# Altium footprint library ebf EP4CE10 Pro_20200309_PCB库_AD格式.PcbLib: 62 footprints (part 2 of 4)
Each footprint in its own frame and in the unit in brackets; x right, y up, seen from the top. Pads: shape width x height; smd on the part's side, far side on the other; paste and mask are expansions set on the pad; w line width, h text height; cw(c..) or ccw(c..) is an arc to the next point about the centre after c.
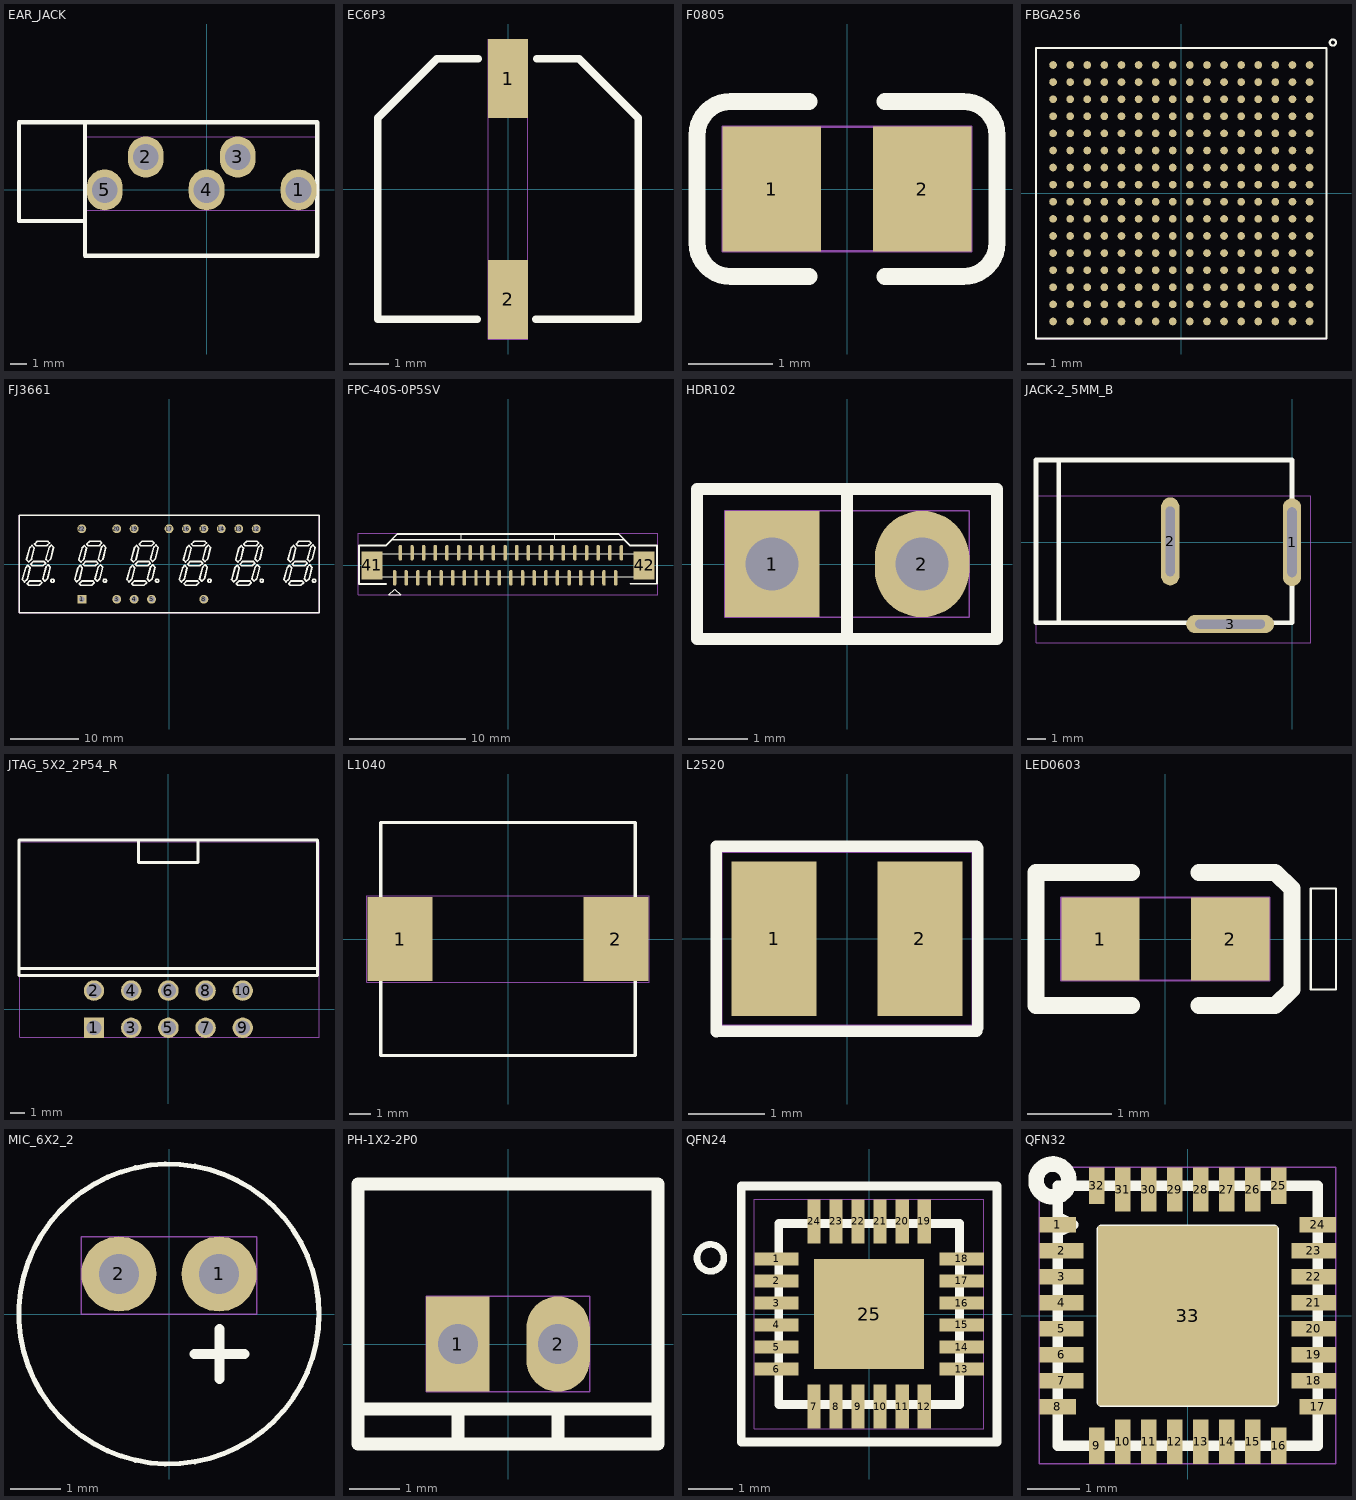
[diagram p1: the footprints below, top view; thin cyan lines are the x and y axes]

## EAR_JACK [mil]
pads (5):
  oval 86x98 hole 62 mask+2: 1(220.5,0) 2(-145.7,78.7) 3(74.8,78.7) 4(0,0) 5(-244.1,0)
Top Overlay:
  lines w10: -294.5,-75 -449.5,-75 -449.5,162 -294.5,162 ; -291.5,-158 -291.5,162 265.5,162 265.5,-158 -291.5,-158
Top Assembly:
  text "J17" at -53.32,-25 h50
Mechanical 20:
  lines w1: -287.1,-49 263.5,-49 263.5,127.7 -287.1,127.7 -287.1,-49

## EC6P3 [mil]
pads (2):
  rect 39.4x78.7 smd mask+2: 1(0,110.2) 2(0,-110.2)
Top Overlay:
  lines w7.9: -31,-129.9 -129.9,-129.9 -129.9,70.9 -70.9,129.9 -30,129.9 ; 28,-129.9 129.9,-129.9 129.9,70.9 70.9,129.9 29,129.9
Top Assembly:
  text "C87" at -63.8,-25 h50
Mechanical 20:
  lines w1: -19.7,-149.6 19.7,-149.6 19.7,149.6 -19.7,149.6 -19.7,-149.6

## F0805 [mil]
pads (2):
  rect 45.7x57.9 smd mask+2: 1(-35,0) 2(35,0)
Top Overlay:
  lines w7.9: -17.7,-40.7 -53.9,-40.7 cw(c-54,-25) -69.7,-25 -69.7,25 cw(c-54,25) -53.89,40.7 -17.7,40.7 ; 17.7,-40.7 53.9,-40.7 ccw(c54,-25) 69.7,-25 69.7,25 ccw(c54,25) 53.89,40.7 17.7,40.7
Top Assembly:
  text "F1" at -24.28,-25 h50
Mechanical 20:
  lines w1: -57.9,-28.9 57.9,-28.9 57.9,28.9 -57.9,28.9 -57.9,-28.9

## FBGA256 [mil]
pads (256):
  round 17.7 smd mask+1.95: A1(295.3,295.3) A2(295.3,255.9) A3(295.3,216.5) A4(295.3,177.2) A5(295.3,137.8) A6(295.3,98.4) A7(295.3,59.1) A8(295.3,19.7) A9(295.3,-19.7) A10(295.3,-59.1) A11(295.3,-98.4) A12(295.3,-137.8) A13(295.3,-177.2) A14(295.3,-216.5) A15(295.3,-255.9) A16(295.3,-295.3) B1(255.9,295.3) B2(255.9,255.9) B3(255.9,216.5) B4(255.9,177.2) B5(255.9,137.8) B6(255.9,98.4) B7(255.9,59.1) B8(255.9,19.7) B9(255.9,-19.7) B10(255.9,-59.1) B11(255.9,-98.4) B12(255.9,-137.8) B13(255.9,-177.2) B14(255.9,-216.5) B15(255.9,-255.9) B16(255.9,-295.3) C1(216.5,295.3) C2(216.5,255.9) C3(216.5,216.5) C4(216.5,177.2) C5(216.5,137.8) C6(216.5,98.4) C7(216.5,59.1) C8(216.5,19.7) C9(216.5,-19.7) C10(216.5,-59.1) C11(216.5,-98.4) C12(216.5,-137.8) C13(216.5,-177.2) C14(216.5,-216.5) C15(216.5,-255.9) C16(216.5,-295.3) D1(177.2,295.3) D2(177.2,255.9) D3(177.2,216.5) D4(177.2,177.2) D5(177.2,137.8) D6(177.2,98.4) D7(177.2,59.1) D8(177.2,19.7) D9(177.2,-19.7) D10(177.2,-59.1) D11(177.2,-98.4) D12(177.2,-137.8) D13(177.2,-177.2) D14(177.2,-216.5) D15(177.2,-255.9) D16(177.2,-295.3) E1(137.8,295.3) E2(137.8,255.9) E3(137.8,216.5) E4(137.8,177.2) E5(137.8,137.8) E6(137.8,98.4) E7(137.8,59.1) E8(137.8,19.7) E9(137.8,-19.7) E10(137.8,-59.1) E11(137.8,-98.4) E12(137.8,-137.8) E13(137.8,-177.2) E14(137.8,-216.5) E15(137.8,-255.9) E16(137.8,-295.3) F1(98.4,295.3) F2(98.4,255.9) F3(98.4,216.5) F4(98.4,177.2) F5(98.4,137.8) F6(98.4,98.4) F7(98.4,59.1) F8(98.4,19.7) F9(98.4,-19.7) F10(98.4,-59.1) F11(98.4,-98.4) F12(98.4,-137.8) F13(98.4,-177.2) F14(98.4,-216.5) F15(98.4,-255.9) F16(98.4,-295.3) G1(59.1,295.3) G2(59.1,255.9) G3(59.1,216.5) G4(59.1,177.2) G5(59.1,137.8) G6(59.1,98.4) G7(59.1,59.1) G8(59.1,19.7) G9(59.1,-19.7) G10(59.1,-59.1) G11(59.1,-98.4) G12(59.1,-137.8) G13(59.1,-177.2) G14(59.1,-216.5) G15(59.1,-255.9) G16(59.1,-295.3) H1(19.7,295.3) H2(19.7,255.9) H3(19.7,216.5) H4(19.7,177.2) H5(19.7,137.8) H6(19.7,98.4) H7(19.7,59.1) H8(19.7,19.7) H9(19.7,-19.7) H10(19.7,-59.1) H11(19.7,-98.4) H12(19.7,-137.8) H13(19.7,-177.2) H14(19.7,-216.5) H15(19.7,-255.9) H16(19.7,-295.3) J1(-19.7,295.3) J2(-19.7,255.9) J3(-19.7,216.5) J4(-19.7,177.2) J5(-19.7,137.8) J6(-19.7,98.4) J7(-19.7,59.1) J8(-19.7,19.7) J9(-19.7,-19.7) J10(-19.7,-59.1) J11(-19.7,-98.4) J12(-19.7,-137.8) J13(-19.7,-177.2) J14(-19.7,-216.5) J15(-19.7,-255.9) J16(-19.7,-295.3) K1(-59.1,295.3) K2(-59.1,255.9) K3(-59.1,216.5) K4(-59.1,177.2) K5(-59.1,137.8) K6(-59.1,98.4) K7(-59.1,59.1) K8(-59.1,19.7) K9(-59.1,-19.7) K10(-59.1,-59.1) K11(-59.1,-98.4) K12(-59.1,-137.8) K13(-59.1,-177.2) K14(-59.1,-216.5) K15(-59.1,-255.9) K16(-59.1,-295.3) L1(-98.4,295.3) L2(-98.4,255.9) L3(-98.4,216.5) L4(-98.4,177.2) L5(-98.4,137.8) L6(-98.4,98.4) L7(-98.4,59.1) L8(-98.4,19.7) L9(-98.4,-19.7) L10(-98.4,-59.1) L11(-98.4,-98.4) L12(-98.4,-137.8) L13(-98.4,-177.2) L14(-98.4,-216.5) L15(-98.4,-255.9) L16(-98.4,-295.3) M1(-137.8,295.3) M2(-137.8,255.9) M3(-137.8,216.5) M4(-137.8,177.2) M5(-137.8,137.8) M6(-137.8,98.4) M7(-137.8,59.1) M8(-137.8,19.7) M9(-137.8,-19.7) M10(-137.8,-59.1) M11(-137.8,-98.4) M12(-137.8,-137.8) M13(-137.8,-177.2) M14(-137.8,-216.5) M15(-137.8,-255.9) M16(-137.8,-295.3) N1(-177.2,295.3) N2(-177.2,255.9) N3(-177.2,216.5) N4(-177.2,177.2) N5(-177.2,137.8) N6(-177.2,98.4) N7(-177.2,59.1) N8(-177.2,19.7) N9(-177.2,-19.7) N10(-177.2,-59.1) N11(-177.2,-98.4) N12(-177.2,-137.8) N13(-177.2,-177.2) N14(-177.2,-216.5) N15(-177.2,-255.9) N16(-177.2,-295.3) P1(-216.5,295.3) P2(-216.5,255.9) P3(-216.5,216.5) P4(-216.5,177.2) P5(-216.5,137.8) P6(-216.5,98.4) P7(-216.5,59.1) P8(-216.5,19.7) P9(-216.5,-19.7) P10(-216.5,-59.1) P11(-216.5,-98.4) P12(-216.5,-137.8) P13(-216.5,-177.2) P14(-216.5,-216.5) P15(-216.5,-255.9) P16(-216.5,-295.3) R1(-255.9,295.3) R2(-255.9,255.9) R3(-255.9,216.5) R4(-255.9,177.2) R5(-255.9,137.8) R6(-255.9,98.4) R7(-255.9,59.1) R8(-255.9,19.7) R9(-255.9,-19.7) R10(-255.9,-59.1) R11(-255.9,-98.4) R12(-255.9,-137.8) R13(-255.9,-177.2) R14(-255.9,-216.5) R15(-255.9,-255.9) R16(-255.9,-295.3) T1(-295.3,295.3) T2(-295.3,255.9) T3(-295.3,216.5) T4(-295.3,177.2) T5(-295.3,137.8) T6(-295.3,98.4) T7(-295.3,59.1) T8(-295.3,19.7) T9(-295.3,-19.7) T10(-295.3,-59.1) T11(-295.3,-98.4) T12(-295.3,-137.8) T13(-295.3,-177.2) T14(-295.3,-216.5) T15(-295.3,-255.9) T16(-295.3,-295.3)
Top Overlay:
  circle w5: c349.08,346.92 r7.12
  lines w1: -334.6,-334.6 -334.6,334.6 ; -334.6,-334.6 334.6,-334.6 ; -334.6,-334.6 -334.6,334.6 ; -334.6,-334.6 334.6,-334.6 ; -334.6,334.6 334.6,334.6 ; -334.6,334.6 334.6,334.6 ; 334.6,-334.6 334.6,334.6 ; 334.6,-334.6 334.6,334.6
  lines w5: -334.6,-334.6 -334.6,334.6 334.6,334.6 334.6,-334.6 -334.6,-334.6
Top Assembly:
  text "U6" at -39.04,-25 h50
Mechanical 20:
  lines w1: -334.6,-334.6 334.6,-334.6 334.6,334.6 -334.6,334.6 -334.6,-334.6

## FJ3661 [mil]
pads (14):
  rect 51.2x51.2 hole 31.5 mask+1.95: 1(-500,-202)
  round 51.2 hole 31.5 mask+1.95: 3(-300,-202) 4(-200,-202) 5(-100,-202) 8(200,-202) 12(500,202) 13(400,202) 14(300,202) 15(200,202) 16(100,202) 17(0,202) 19(-200,202) 20(-300,202) 22(-500,202)
Top Overlay:
  drawing of 280 lines, arcs and shapes, not listed
Top Assembly:
  text "U22" at -62.49,-25 h50
Mechanical 20:
  lines w1: -860.2,-279.5 860.2,-279.5 860.2,279.5 -860.2,279.5 -860.2,-279.5

## FPC-40S-0P5SV [mil]
pads (42):
  oval 11.8x53.2 smd mask+1.95: 1(-383.8,-42.4) 2(-364.2,42.4) 3(-344.5,-42.4) 4(-324.8,42.4) 5(-305.1,-42.4) 6(-285.4,42.4) 7(-265.7,-42.4) 8(-246.1,42.4) 9(-226.4,-42.4) 10(-206.7,42.4) 11(-187,-42.4) 12(-167.3,42.4) 13(-147.6,-42.4) 14(-128,42.4) 15(-108.3,-42.4) 16(-88.6,42.4) 17(-68.9,-42.4) 18(-49.2,42.4) 19(-29.5,-42.4) 20(-9.8,42.4) 21(9.8,-42.4) 22(29.5,42.4) 23(49.2,-42.4) 24(68.9,42.4) 25(88.6,-42.4) 26(108.3,42.4) 27(128,-42.4) 28(147.6,42.4) 29(167.3,-42.4) 30(187,42.4) 31(206.7,-42.4) 32(226.4,42.4) 33(246.1,-42.4) 34(265.7,42.4) 35(285.4,-42.4) 36(305.1,42.4) 37(324.8,-42.4) 38(344.5,42.4) 39(364.2,-42.4) 40(383.8,42.4)
  rect 70.9x94.5 smd mask+1.95: 41(-460.3,0) 42(460.3,0)
Top Overlay:
  lines w1: -464.6,-39.4 -464.6,39.4 464.6,39.4 464.6,-39.4 -464.6,-39.4 ; -403.7,-100.3 -383.7,-80.3 -363.7,-100.3 -403.7,-100.3 ; -157.5,86.9 157.5,86.9 157.5,106.6 -157.5,106.6 -157.5,86.9
  lines w6: -503.9,67 -503.9,66.9 ; -412.9,-62.9 -503.9,-62.9 -503.9,66.9 ; -393.7,86.6 393.7,86.6 ; 413.8,-62.2 503.9,-62.2 503.9,-35.4 503.9,66.9 413.4,66.9 374,106.3 -374,106.3 -413.4,66.9 -503.9,66.9
Top Assembly:
  text "J19" at -52.13,-25 h50
Mechanical 20:
  lines w1: -506.9,-100.3 506.9,-100.3 506.9,109.3 -506.9,109.3 -506.9,-100.3

## HDR102 [mil]
pads (2):
  rect 63x70.9 / inner oval 63x70.9 / far side rect 63x70.9 hole 35.4 mask+1.95: 1(-50,0)
  oval 63x70.9 hole 35.4 mask+1.95: 2(50,0)
Top Overlay:
  lines w8: 0,-50 0,50 ; -100,-50 100,-50 100,50 -100,50 -100,-50
Top Assembly:
  text "J3" at -34.99,-25 h50
Mechanical 20:
  lines w1: -81.5,-35.4 81.5,-35.4 81.5,35.4 -81.5,35.4 -81.5,-35.4

## JACK-2_5MM_B [mil]
pads (3):
  oval 39.4x189.4 / inner oval 39.4x189.4 / far side oval 78.7x189.4 hole 19.7 slot 150 at 90 deg mask+1.95: 1(0,0) 2(-262.2,1.8)
  oval 189.4x39.4 / inner oval 189.4x39.4 / far side oval 189.4x78.7 hole 19.7 slot 150 at 0 deg mask+1.95: 3(-133.2,-176.2)
Top Overlay:
  lines w10: -502.2,-171.2 -502.2,177.2 ; -551.2,-173.2 0,-173.2 0,177.2 -551.2,177.2 -551.2,-173.2
Top Assembly:
  text "JACK1" at -96.29,-25 h50
Mechanical 20:
  lines w1: -551.2,-216.2 40,-216.2 40,99.8 -551.2,99.8 -551.2,-216.2

## JTAG_5X2_2P54_R [mil]
pads (10):
  rect 55x55 / inner round 55 / far side rect 55x55 hole 40 mask+2.5: 1(-200,-50)
  round 55 hole 40 mask+2.5: 2(-200,50) 3(-100,-50) 4(-100,50) 5(0,-50) 6(0,50) 7(100,-50) 8(100,50) 9(200,-50) 10(200,50)
Top Overlay:
  lines w8: -401.6,110 401.6,110 ; -80,454.4 -80,394.4 80,394.4 80,454.4 ; -60,455 60,455 ; -401.6,90 -401.6,455 401.6,455 401.6,90 -401.6,90
Top Assembly:
  text "J22" at -57.25,-25 h50
Mechanical 20:
  lines w1: -400,-75 405,-75 405,450 -400,450 -400,-75

## L1040 [mil]
pads (2):
  rect 118.1x153.5 smd mask+2: 1(-196.8,0) 2(196.8,0)
Top Overlay:
  lines w6: -232.3,-212.6 -232.3,212.6 232.3,212.6 232.3,-212.6 -232.3,-212.6
Top Assembly:
  text "L1" at -22.97,-25 h50
Mechanical 20:
  lines w1: -257.9,-78.7 257.9,-78.7 257.9,78.7 -257.9,78.7 -257.9,-78.7

## L2520 [mil]
pads (2):
  rect 44x80 smd mask+2: 1(-37.7,0) 2(37.7,0)
Top Overlay:
  lines w6: -67.7,-48.2 -67.7,48 ; -67.7,47.9 67.1,47.9 ; -65.7,-47.9 67.1,-47.9 ; 67.7,-46.1 67.7,47
Top Assembly:
  text "L4" at -34.87,-25 h50
Mechanical 20:
  lines w1: -65,-45 -65,45 65,45 65,-45 -65,-45

## LED0603 [mil]
pads (2):
  rect 36.6x38.6 smd mask+1.95: 1(-30.3,0) 2(30.3,0)
Top Overlay:
  lines w1: 67.9,-23.6 67.9,23.6 79.7,23.6 79.7,-23.6 67.9,-23.6
  lines w7.9: -15.7,-31.1 -60.4,-31.1 -60.4,31.1 -15.7,31.1 ; 15.7,-31.1 51.2,-31.1 59.1,-23.5 59.1,23.5 51.2,31.1 15.7,31.1
Top Assembly:
  text "D9" at -37.73,-25 h50
Mechanical 20:
  lines w1: -48.6,-19.3 48.6,-19.3 48.6,19.3 -48.6,19.3 -48.6,-19.3

## MIC_6X2_2 [mil]
pads (2):
  round 59.1 hole 31.5 mask+2: 1(39.4,31.5) 2(-39.4,31.5)
Top Overlay:
  circle w4: c0,0 r118.1
  lines w7.9: 19.9,-31.6 59.3,-31.6 ; 39.6,-51.3 39.6,-11.9
Top Assembly:
  text "P1" at -28.21,-25 h50
Mechanical 20:
  lines w1: -68.9,0 68.9,0 68.9,61 -68.9,61 -68.9,0

## PH-1X2-2P0 [mil]
pads (2):
  rect 50x75 hole 31.5 mask+2.5: 1(-39.4,0)
  oval 50x75 hole 31.5 mask+2.5: 2(39.4,0)
Top Overlay:
  lines w10: -118.1,-51.2 118.1,-51.2 ; -39.4,-78.7 -39.4,-51.2 ; 39.4,-78.7 39.4,-51.2 ; -118.1,-78.7 118.1,-78.7 118.1,126 -118.1,126 -118.1,-78.7
Top Assembly:
  text "J18" at -53.32,-25 h50
Mechanical 20:
  lines w1: -64.4,-37.5 64.4,-37.5 64.4,37.5 -64.4,37.5 -64.4,-37.5

## QFN24 [mil]
pads (25):
  rect 39.4x11.8 smd mask+1.95: 1(-82.7,49.2) 2(-82.7,29.5) 3(-82.7,9.8) 4(-82.7,-9.8) 5(-82.7,-29.5) 6(-82.7,-49.2) 13(82.7,-49.2) 14(82.7,-29.5) 15(82.7,-9.8) 16(82.7,9.8) 17(82.7,29.5) 18(82.7,49.2)
  rect 11.8x39.4 smd mask+1.95: 7(-49.2,-82.7) 8(-29.5,-82.7) 9(-9.8,-82.7) 10(9.8,-82.7) 11(29.5,-82.7) 12(49.2,-82.7) 19(49.2,82.7) 20(29.5,82.7) 21(9.8,82.7) 22(-9.8,82.7) 23(-29.5,82.7) 24(-49.2,82.7)
  rect 98.4x98.4 smd mask+2: 25(0,0)
Top Overlay:
  circle w6: c-141.7,50.2 r12
  lines w7.9: -114.2,-114.2 114.2,-114.2 114.2,114.2 -114.2,114.2 -114.2,-114.2 ; -80.7,-80.7 80.7,-80.7 80.7,80.7 -80.7,80.7 -80.7,-80.7
Top Assembly:
  text "U14" at -59.75,-25 h50
Mechanical 20:
  lines w1: -102.4,-102.4 102.4,-102.4 102.4,102.4 -102.4,102.4 -102.4,-102.4

## QFN32 [mil]
pads (33):
  rect 27.6x11.8 smd mask+1.95: 1(-98.4,68.9) 8(-98.4,-68.9) 17(98.4,-68.9) 24(98.4,68.9)
  rect 33.5x11.8 smd mask+1.95: 2(-95.5,49.2) 3(-95.5,29.5) 4(-95.5,9.8) 5(-95.5,-9.8) 6(-95.5,-29.5) 7(-95.5,-49.2) 18(95.5,-49.2) 19(95.5,-29.5) 20(95.5,-9.8) 21(95.5,9.8) 22(95.5,29.5) 23(95.5,49.2)
  rect 11.8x27.6 smd mask+1.95: 9(-68.9,-98.4) 16(68.9,-98.4) 25(68.9,98.4) 32(-68.9,98.4)
  rect 11.8x33.5 smd mask+1.95: 10(-49.2,-95.5) 11(-29.5,-95.5) 12(-9.8,-95.5) 13(9.8,-95.5) 14(29.5,-95.5) 15(49.2,-95.5) 26(49.2,95.5) 27(29.5,95.5) 28(9.8,95.5) 29(-9.8,95.5) 30(-29.5,95.5) 31(-49.2,95.5)
  rect 135.8x135.8 smd mask+2: 33(0,0)
Top Overlay:
  circle w11.8: c-102.36,102.36 r12.46
  lines w7.9: -98.4,-98.4 98.4,-98.4 98.4,98.4 -98.4,98.4 -98.4,74.8 -86.6,68.9 -98.4,63 -98.4,-98.4 ; -65,-65 65,-65 65,65 -65,65 -65,-65
Top Assembly:
  text "U18" at -58.56,-25 h50
Mechanical 20:
  lines w1: -112.2,-112.2 112.2,-112.2 112.2,112.2 -112.2,112.2 -112.2,-112.2